# EAGLE library part TPS62237DRY (library TPS62237DRY)
Ultra Small Step-Down Converter in 1 x 1.5 USON Package Source: Datasheet <https://www.ti.com/lit/ds/slvs941g/slvs941g.pdf?ts=1612265005284&ref_url=https%3A%2F%2Fwww.google.com%2F>
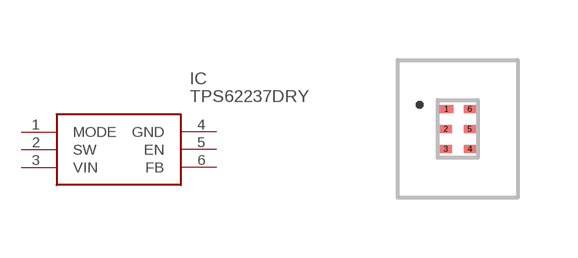
[diagram p0: symbol with the pads of TPS62237DRY; footprint TPS62237DRY]

Designator prefix IC

## TPS62237DRY (Description: Ultra Small Step-Down Converter in 1 x 1.5 USON Package; Height: 0.6mm; Manufacturer_Name: Texas Instruments; Manufacturer_Part_Number: TPS62237DRY)  [TPS62237DRY]
1  MODE
2  SW
3  VIN
4  GND
5  EN
6  FB

## Footprint TPS62237DRY (pad centres in mm)
TPS62237DRY-2
smd 0.35 x 0.2: 1 -0.28,0.5
smd 0.3 x 0.2: 2 -0.3,0; 3 -0.3,-0.5; 4 0.3,-0.5; 5 0.3,0; 6 0.3,0.5